# EAGLE library part PORT_USER_VIC_EDGE (library commodore)
Userport Commodore VIC-20, edge type
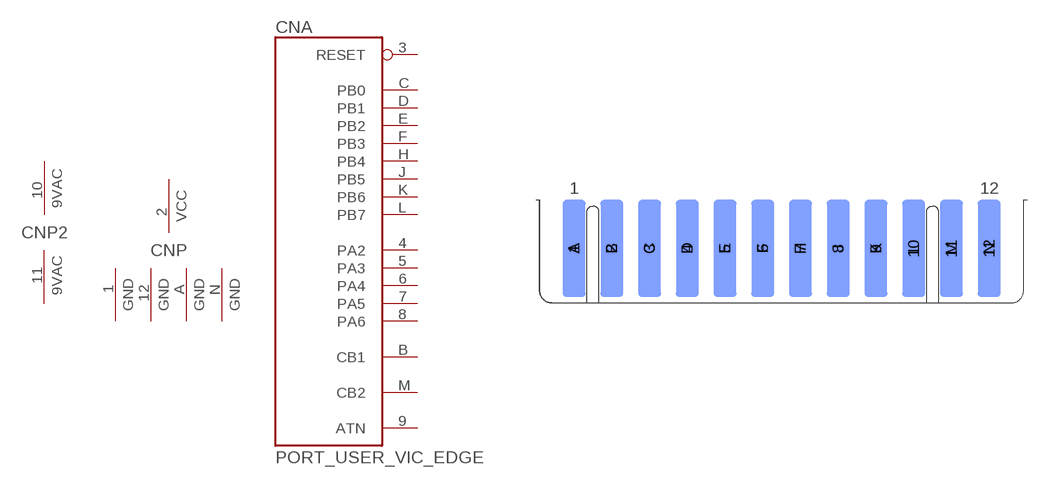
[diagram p43: symbol with the pads of MA156_12-2_USER; footprint MA156_12-2_USER]

Designator prefix CN; gates A=PORT_USER_VIC_EDGE P=PWR-GND4 P2=9VAC

## PORT_USER_VIC_EDGE  [MA156_12-2_USER]
1  P:GND  pwr
2  P:VCC  pwr
3  A:RESET
4  A:PA2
5  A:PA3
6  A:PA4
7  A:PA5
8  A:PA6
9  A:ATN
10  P2:9VAC  pwr
11  P2:9VAC  pwr
12  P:GND  pwr
A  P:GND  pwr
B  A:CB1  out
C  A:PB0
D  A:PB1
E  A:PB2
F  A:PB3
H  A:PB4
J  A:PB5
K  A:PB6
L  A:PB7
M  A:CB2
N  P:GND  pwr

## Footprint MA156_12-2_USER (pad centres in mm)
smd 2.388 x 10.16: 1 -21.793,0; 2 -17.831,0; 3 -13.868,0; 4 -9.906,0; 5 -5.944,0; 6 -1.981,0; 7 1.981,0; 8 5.944,0; 9 9.906,0; 10 13.868,0; 11 17.831,0; 12 21.793,0
smd 2.388 x 10.16 bottom: A -21.793,0; B -17.831,0; C -13.868,0; D -9.906,0; E -5.944,0; F -1.981,0; H 1.981,0; J 5.944,0; K 9.906,0; L 13.868,0; M 17.831,0; N 21.793,0